# Altium footprint library PcbLib1.PcbLib: 16 footprints
Each footprint in its own frame and in the unit in brackets; x right, y up, seen from the top. Pads: shape width x height; smd on the part's side, far side on the other; paste and mask are expansions set on the pad; w line width, h text height; cw(c..) or ccw(c..) is an arc to the next point about the centre after c.
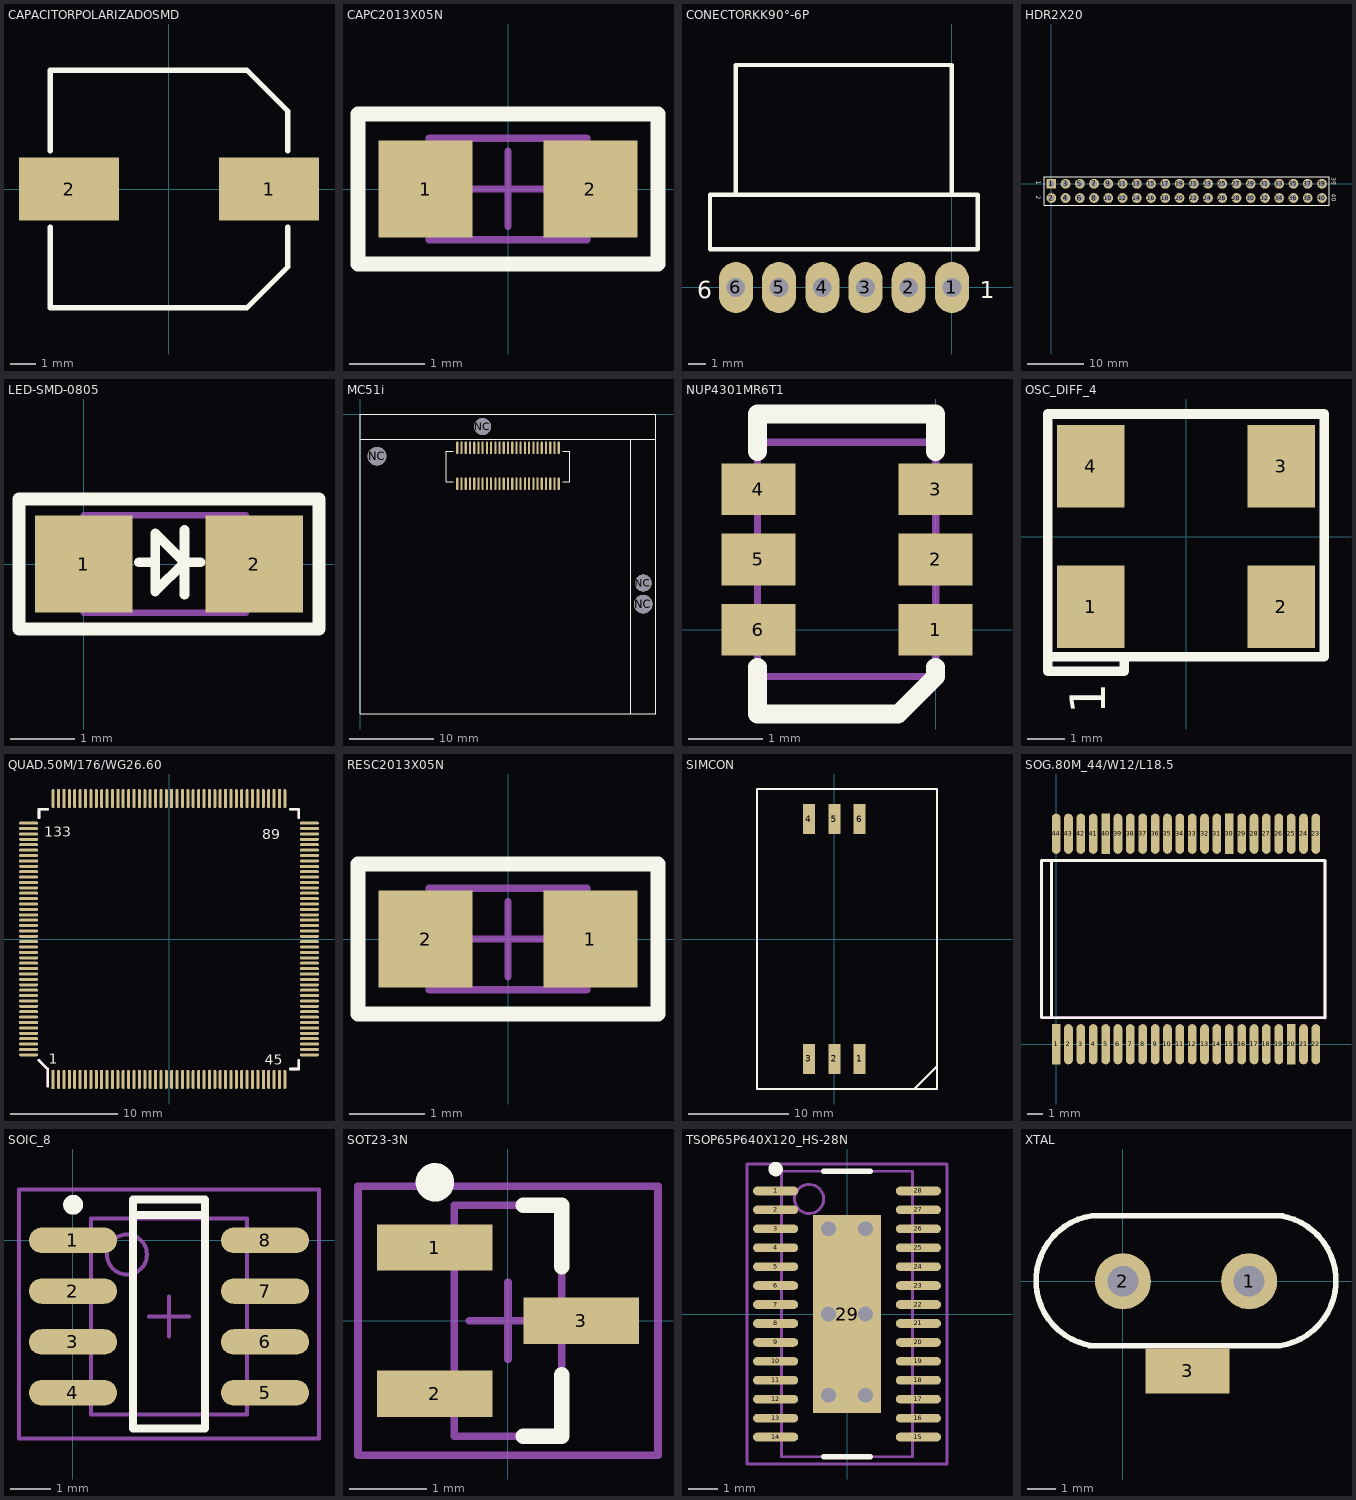
[diagram p0: the footprints below, top view; thin cyan lines are the x and y axes]

## CAPACITORPOLARIZADOSMD [mm]
pads (2):
  rect 4x2.5 smd: 1(4,0) 2(-4,0)
Top Overlay:
  lines w0.203: -4.75,-1.524 -4.75,-4.75 3.124,-4.75 4.75,-3.124 4.75,-1.524 ; -4.75,1.524 -4.75,4.75 3.124,4.75 4.75,3.124 4.75,1.524
3D body: height 10.4, standoff 0, extent -4.762,-4.762 4.762,4.762
3D body: height 0, standoff 0, extent -4.75,-4.75 4.75,4.75

## CAPC2013X05N [mm] "Chip Capacitor, 2-Leads, Body 2,0x1,3mm, IPC Medium Density"
height 0.5
pads (2):
  rect 1.25x1.3 smd: 1(-1.1,0) 2(1.1,0)
Top Overlay:
  lines w0.2: -2,-1 2,-1 2,1 -2,1 -2,-1
Mechanical 13:
  lines w0.1: -1.05,-0.675 1.05,-0.675 1.05,0.675 -1.05,0.675 -1.05,-0.675
Mechanical 15:
  lines w0.1: -0.5,0 0.5,0 ; 0,-0.5 0,0.5 ; -2,-1 2,-1 2,1 -2,1 -2,-1
3D body: height 0.5, standoff 0, extent -1.05,-0.675 1.05,0.675

## CONECTORKK90°-6P [mm]
pads (6):
  oval 2x3 hole 1.1: 1(0,0) 2(-2.54,0) 3(-5.08,0) 4(-7.62,0) 5(-10.16,0) 6(-12.7,0)
Top Overlay:
  lines w0.254: -12.7,5.45 -12.7,13.081 0,13.081 0,5.461 ; -14.224,2.25 1.524,2.25 ; -14.224,2.25 -14.224,5.45 1.524,5.45 1.524,2.25 ; -14.224,2.25 1.524,2.25
  text "6" at -14.986,-0.635 h1
  text "1" at 1.651,-0.635 h1
3D body: height 2.5, standoff 0, extent -12.7,9.525 0,10.16
3D body: height 2.5, standoff 0, extent -12.7,8.255 0,8.89
3D body: height 5.7, standoff 0, extent -14.224,2.25 1.524,5.45
3D body: height 2, standoff 0, extent -12.7,2.25 0,13.081

## HDR2X20 [mm] "Connector; Header; 20x2 Position"
pads (40):
  rect 1.74x1.74 hole 1.1: 1(0,0)
  round 1.74 hole 1.1: 2(0,-2.54) 3(2.54,0) 4(2.54,-2.54) 5(5.08,0) 6(5.08,-2.54) 7(7.62,0) 8(7.62,-2.54) 9(10.16,0) 10(10.16,-2.54) 11(12.7,0) 12(12.7,-2.54) 13(15.24,0) 14(15.24,-2.54) 15(17.78,0) 16(17.78,-2.54) 17(20.32,0) 18(20.32,-2.54) 19(22.86,0) 20(22.86,-2.54) 21(25.4,0) 22(25.4,-2.54) 23(27.94,0) 24(27.94,-2.54) 25(30.48,0) 26(30.48,-2.54) 27(33.02,0) 28(33.02,-2.54) 29(35.56,0) 30(35.56,-2.54) 31(38.1,0) 32(38.1,-2.54) 33(40.64,0) 34(40.64,-2.54) 35(43.18,0) 36(43.18,-2.54) 37(45.72,0) 38(45.72,-2.54) 39(48.26,0) 40(48.26,-2.54)
Top Overlay:
  lines w0.2: -1.27,-3.81 -1.27,1.27 49.53,1.27 49.53,-3.81 -1.27,-3.81
  text "39" at 49.97,1.143 h0.8
  text "40" at 49.97,-1.778 h0.8
  text "2" at -2.735,-2.159 h0.8
  text "1" at -2.735,0.508 h0.8
3D body: height 0, standoff 0, extent -1.269,-3.809 49.529,1.269

## LED-SMD-0805 [mil]
pads (2):
  rect 60x60 smd: 1(0,0) 2(105,0)
Top Overlay:
  lines w6: 34,1 44,1 ; 62,-19 62,21 ; 72,1 62,1 ; 62,1 44,-17 44,19 62,1
  lines w8: -40,-40 -40,40 145,40 145,-40 -40,-40
Mechanical 13:
  lines w3.94: 0,-30 0,30 100,30 100,-30 0,-30
3D body: height 19.68, standoff 0, extent 0,-30 105,30

## MC51i [mm]
pads (54):
  oval 0.25x1.5 smd paste+0 mask+0.01: 1(23.5,-8.25) 2(23,-8.25) 3(22.5,-8.25) 4(22,-8.25) 5(21.5,-8.25) 6(21,-8.25) 7(20.5,-8.25) 8(20,-8.25) 9(19.5,-8.25) 10(19,-8.25) 11(18.5,-8.25) 12(18,-8.25) 13(17.5,-8.25) 14(17,-8.25) 15(16.5,-8.25) 16(16,-8.25) 17(15.5,-8.25) 18(15,-8.25) 19(14.5,-8.25) 20(14,-8.25) 21(13.5,-8.25) 22(13,-8.25) 23(12.5,-8.25) 24(12,-8.25) 25(11.5,-8.25) 26(11.5,-4) 27(12,-4) 28(12.5,-4) 29(13,-4) 30(13.5,-4) 31(14,-4) 32(14.5,-4) 33(15,-4) 34(15.5,-4) 35(16,-4) 36(16.5,-4) 37(17,-4) 38(17.5,-4) 39(18,-4) 40(18.5,-4) 41(19,-4) 42(19.5,-4) 43(20,-4) 44(20.5,-4) 45(21,-4) 46(21.5,-4) 47(22,-4) 48(22.5,-4) 49(23,-4) 50(23.5,-4)
  round 2.2 hole 2.2: NC(2,-5) NC(33.5,-22.5)
  round 2 hole 2: NC(14.5,-1.5) NC(33.5,-20)
Top Overlay:
  lines w0.1: 35,-3 35,0
  lines w0.127: 11,-4.4 10.2,-4.4 10.2,-8 11,-8 ; 24,-4.4 24.8,-4.4 24.8,-8 24,-8 ; 32,-35.5 32,-3 ; 35,-1.5 35,-3 ; 35,0 0,0 0,-3 ; 0,-3 0,-35.5 35,-35.5 35,-3 ; 0,-3 35,-3 ; 11,-8 11,-8 ; 24,-8 24,-8

## NUP4301MR6T1 [mm]
height 0.6
pads (6):
  rect 1x0.7 smd: 1(0,0) 2(0,0.95) 3(0,1.9) 4(-2.4,1.9) 5(-2.4,0.95) 6(-2.4,0)
Top Overlay:
  lines w0.254: -2.413,-0.508 -2.413,-1.143 -0.508,-1.143 0,-0.635 0,-0.508 ; -2.413,2.413 -2.413,2.921 0,2.921 0,2.413
Mechanical 13:
  lines w0.1: -2.413,-0.635 -2.413,2.54 0,2.54 0,-0.635 -2.413,-0.635
3D body: height 1.6, standoff 0, extent -2.787,-0.247 0.388,2.152

## OSC_DIFF_4 [mm]
pads (4):
  rect 1.8x2.2 smd: 1(-2.54,-1.875) 2(2.54,-1.875) 3(2.54,1.875) 4(-2.54,1.875)
Top Overlay:
  lines w0.254: -3.683,-3.078 -3.683,-3.586 -1.651,-3.586 -1.651,-3.205 ; -3.683,-3.205 3.683,-3.205 3.683,3.272 -3.683,3.272 -3.683,-3.205
  text "1" at -2.159,-4.729 h0.95

## QUAD.50M/176/WG26.60 [mil]
pads (176):
  rect 11x70 smd: 1(-423.55,-513.55) 10(-246.25,-513.55) 20(-49.25,-513.55) 30(147.75,-513.55) 40(344.75,-513.55) 90(403.85,513.55) 100(206.85,513.55) 110(9.85,513.55) 120(-187.15,513.55) 130(-384.15,513.55)
  oval 11x70 smd: 2(-403.85,-513.55) 3(-384.15,-513.55) 4(-364.45,-513.55) 5(-344.75,-513.55) 6(-325.05,-513.55) 7(-305.35,-513.55) 8(-285.65,-513.55) 9(-265.95,-513.55) 11(-226.55,-513.55) 12(-206.85,-513.55) 13(-187.15,-513.55) 14(-167.45,-513.55) 15(-147.75,-513.55) 16(-128.05,-513.55) 17(-108.35,-513.55) 18(-88.65,-513.55) 19(-68.95,-513.55) 21(-29.55,-513.55) 22(-9.85,-513.55) 23(9.85,-513.55) 24(29.55,-513.55) 25(49.25,-513.55) 26(68.95,-513.55) 27(88.65,-513.55) 28(108.35,-513.55) 29(128.05,-513.55) 31(167.45,-513.55) 32(187.15,-513.55) 33(206.85,-513.55) 34(226.55,-513.55) 35(246.25,-513.55) 36(265.95,-513.55) 37(285.65,-513.55) 38(305.35,-513.55) 39(325.05,-513.55) 41(364.45,-513.55) 42(384.15,-513.55) 43(403.85,-513.55) 44(423.55,-513.55) 89(423.55,513.55) 91(384.15,513.55) 92(364.45,513.55) 93(344.75,513.55) 94(325.05,513.55) 95(305.35,513.55) 96(285.65,513.55) 97(265.95,513.55) 98(246.25,513.55) 99(226.55,513.55) 101(187.15,513.55) 102(167.45,513.55) 103(147.75,513.55) 104(128.05,513.55) 105(108.35,513.55) 106(88.65,513.55) 107(68.95,513.55) 108(49.25,513.55) 109(29.55,513.55) 111(-9.85,513.55) 112(-29.55,513.55) 113(-49.25,513.55) 114(-68.95,513.55) 115(-88.65,513.55) 116(-108.35,513.55) 117(-128.05,513.55) 118(-147.75,513.55) 119(-167.45,513.55) 121(-206.85,513.55) 122(-226.55,513.55) 123(-246.25,513.55) 124(-265.95,513.55) 125(-285.65,513.55) 126(-305.35,513.55) 127(-325.05,513.55) 128(-344.75,513.55) 129(-364.45,513.55) 131(-403.85,513.55) 132(-423.55,513.55)
  oval 70x11 smd: 45(513.55,-423.55) 46(513.55,-403.85) 47(513.55,-384.15) 48(513.55,-364.45) 49(513.55,-344.75) 51(513.55,-305.35) 52(513.55,-285.65) 53(513.55,-265.95) 54(513.55,-246.25) 55(513.55,-226.55) 56(513.55,-206.85) 57(513.55,-187.15) 58(513.55,-167.45) 59(513.55,-147.75) 61(513.55,-108.35) 62(513.55,-88.65) 63(513.55,-68.95) 64(513.55,-49.25) 65(513.55,-29.55) 66(513.55,-9.85) 67(513.55,9.85) 68(513.55,29.55) 69(513.55,49.25) 71(513.55,88.65) 72(513.55,108.35) 73(513.55,128.05) 74(513.55,147.75) 75(513.55,167.45) 76(513.55,187.15) 77(513.55,206.85) 78(513.55,226.55) 79(513.55,246.25) 81(513.55,285.65) 82(513.55,305.35) 83(513.55,325.05) 84(513.55,344.75) 85(513.55,364.45) 86(513.55,384.15) 87(513.55,403.85) 88(513.55,423.55) 133(-513.55,423.55) 134(-513.55,403.85) 135(-513.55,384.15) 136(-513.55,364.45) 137(-513.55,344.75) 138(-513.55,325.05) 139(-513.55,305.35) 141(-513.55,265.95) 142(-513.55,246.25) 143(-513.55,226.55) 144(-513.55,206.85) 145(-513.55,187.15) 146(-513.55,167.45) 147(-513.55,147.75) 148(-513.55,128.05) 149(-513.55,108.35) 151(-513.55,68.95) 152(-513.55,49.25) 153(-513.55,29.55) 154(-513.55,9.85) 155(-513.55,-9.85) 156(-513.55,-29.55) 157(-513.55,-49.25) 158(-513.55,-68.95) 159(-513.55,-88.65) 161(-513.55,-128.05) 162(-513.55,-147.75) 163(-513.55,-167.45) 164(-513.55,-187.15) 165(-513.55,-206.85) 166(-513.55,-226.55) 167(-513.55,-246.25) 168(-513.55,-265.95) 169(-513.55,-285.65) 171(-513.55,-325.05) 172(-513.55,-344.75) 173(-513.55,-364.45) 174(-513.55,-384.15) 175(-513.55,-403.85) 176(-513.55,-423.55)
  rect 70x11 smd: 50(513.55,-325.05) 60(513.55,-128.05) 70(513.55,68.95) 80(513.55,265.95) 140(-513.55,285.65) 150(-513.55,88.65) 160(-513.55,-108.35) 170(-513.55,-305.35)
Top Overlay:
  lines w10: -475.05,-443.75 -443.75,-475.05 -443.75,-537.55 ; -475.05,443.75 -475.05,474.95 -443.75,474.95 ; 443.75,-475.05 474.95,-475.05 474.95,-443.75 ; 443.75,474.95 474.95,474.95 474.95,443.75
  text "133" at -455.68,374.12 h37.5
  text "89" at 340.22,365.58 h37.5
  text "45" at 350.58,-460.35 h37.5
  text "1" at -438.92,-455.68 h37.5
Mechanical 1:
  lines w10: -475.05,-443.75 -443.75,-475.05 -443.75,-537.55 ; -475.05,443.75 -475.05,474.95 -443.75,474.95 ; 443.75,-475.05 474.95,-475.05 474.95,-443.75 ; 443.75,474.95 474.95,474.95 474.95,443.75
  text "133" at -455.68,404.12 h37.5
  text "89" at 415.22,455.58 h37.5
  text "45" at 455.58,-415.35 h37.5
  text "1" at -438.92,-455.68 h37.5

## RESC2013X05N [mm] "Chip Resistor, 2-Leads, Body 2,0x1,3mm, IPC Medium Density"
height 0.5
pads (2):
  rect 1.25x1.3 smd: 1(1.1,0) 2(-1.1,0)
Top Overlay:
  lines w0.2: -2,-1 2,-1 2,1 -2,1 -2,-1
Mechanical 13:
  lines w0.1: -1.05,-0.675 -1.05,0.675 1.05,0.675 1.05,-0.675 -1.05,-0.675
Mechanical 15:
  lines w0.1: -0.5,0 0.5,0 ; 0,-0.5 0,0.5 ; -2,-1 -2,1 2,1 2,-1 -2,-1
3D body: height 0.5, standoff 0, extent -1.05,-0.675 1.05,0.675

## SIMCON [mm]
pads (6):
  rect 1.2x3 smd: 1(2.54,-12) 2(0,-12) 3(-2.54,-12) 4(-2.54,12) 5(0,12) 6(2.54,12)
Top Overlay:
  lines w0.2: 8,-15 10.27,-12.73 10.27,-12 ; -7.73,-15 10.27,-15 10.27,15 -7.73,15 -7.73,-15

## SOG.80M_44/W12/L18.5 [mil]
pads (44):
  rect 22x102.33 smd: 1(0,0) 20(598.5,0) 30(441,536) 40(126,536)
  oval 22x102.33 smd: 2(31.5,0) 3(63,0) 4(94.5,0) 5(126,0) 6(157.5,0) 7(189,0) 8(220.5,0) 9(252,0) 10(283.5,0) 11(315,0) 12(346.5,0) 13(378,0) 14(409.5,0) 15(441,0) 16(472.5,0) 17(504,0) 18(535.5,0) 19(567,0) 21(630,0) 22(661.5,0) 23(661.5,536) 24(630,536) 25(598.5,536) 26(567,536) 27(535.5,536) 28(504,536) 29(472.5,536) 31(409.5,536) 32(378,536) 33(346.5,536) 34(315,536) 35(283.5,536) 36(252,536) 37(220.5,536) 38(189,536) 39(157.5,536) 41(94.5,536) 42(63,536) 43(31.5,536) 44(0,536)
Top Overlay:
  lines w8: -11.8,68 -11.8,468 ; -36.8,68 684.4,66.87 684.4,468 -36.8,468 -36.8,68
Mechanical 1:
  lines w8: -11.8,68 -11.8,468 ; -36.8,68 -36.8,468 685,468 685,68 -36.8,68

## SOIC_8 [mm]
height 1.1
pads (8):
  oval 2.2x0.635 smd: 1(0,0) 2(0,-1.27) 3(0,-2.54) 4(0,-3.81) 5(4.8,-3.81) 6(4.8,-2.54) 7(4.8,-1.27) 8(4.8,0)
Top Overlay:
  circle w0.25: c0.003,0.889 r0.124
  lines w0.2: 1.5,1.014 1.5,0.635 ; 1.502,1.016 3.302,1.016 ; 3.3,1.014 3.3,0.635 ; 1.5,0.635 3.3,0.635 ; 1.5,0.635 1.5,-4.699 3.3,-4.699 3.3,0.635
Mechanical 13:
  circle w0.1: c1.35,-0.355 r0.5
  lines w0.1: 0.45,-4.355 0.45,0.545 4.35,0.545 4.35,-4.355 0.45,-4.355
Mechanical 15:
  lines w0.1: 1.9,-1.905 2.9,-1.905 ; 2.4,-2.405 2.4,-1.405 ; -1.35,-4.953 -1.35,1.27 6.15,1.27 6.15,-4.953 -1.35,-4.953
3D body: height 1.75, standoff 0, extent 0.45,-4.355 4.35,0.545

## SOT23-3N [mm] "SOT23, 3-Leads, Body 2.9x1.3mm, Pitch 0.95mm, Lead Span 2.5mm, IPC Medium Density"
height 1.1
pads (3):
  rect 1.5x0.6 smd: 1(-0.95,0.95) 2(-0.95,-0.95) 3(0.95,0)
Top Overlay:
  circle w0.25: c-0.95,1.8 r0.125
  lines w0.2: 0.2,-1.5 0.7,-1.5 0.7,-0.7 ; 0.2,1.5 0.7,1.5 0.7,0.7
Mechanical 13:
  lines w0.1: -0.7,-1.5 0.7,-1.5 0.7,1.5 -0.7,1.5 -0.7,-1.5
Mechanical 15:
  lines w0.1: -0.5,0 0.5,0 ; 0,-0.5 0,0.5 ; -1.95,-1.75 1.95,-1.75 1.95,1.75 -1.95,1.75 -1.95,-1.75
3D body: height 1.1, standoff 0, extent -0.7,-1.5 0.7,1.5

## TSOP65P640X120_HS-28N [mm] "TSOP, 28-Leads, Body 9.8x4.5mm (max), Pitch 0.65mm, IPC Medium Density"
height 1.2
pads (29):
  oval 1.55x0.3 smd: 1(-2.45,4.225) 2(-2.45,3.575) 3(-2.45,2.925) 4(-2.45,2.275) 5(-2.45,1.625) 6(-2.45,0.975) 7(-2.45,0.325) 8(-2.45,-0.325) 9(-2.45,-0.975) 10(-2.45,-1.625) 11(-2.45,-2.275) 12(-2.45,-2.925) 13(-2.45,-3.575) 14(-2.45,-4.225) 15(2.45,-4.225) 16(2.45,-3.575) 17(2.45,-2.925) 18(2.45,-2.275) 19(2.45,-1.625) 20(2.45,-0.975) 21(2.45,-0.325) 22(2.45,0.325) 23(2.45,0.975) 24(2.45,1.625) 25(2.45,2.275) 26(2.45,2.925) 27(2.45,3.575) 28(2.45,4.225)
  rect 2.35x6.8 smd: 29(0,0)
via 0.635,-2.794 diameter 0.8 hole 0.5
via -0.635,-2.794 diameter 0.8 hole 0.5
via 0.635,0 diameter 0.8 hole 0.5
via -0.635,0 diameter 0.8 hole 0.5
via 0.635,2.921 diameter 0.8 hole 0.5
via -0.635,2.921 diameter 0.8 hole 0.5
Top Overlay:
  circle w0.25: c-2.45,4.975 r0.125
  lines w0.2: -0.8,-4.9 0.8,-4.9 ; -0.8,4.9 0.8,4.9
Mechanical 13:
  circle w0.1: c-1.3,3.95 r0.5
  lines w0.1: -2.25,-4.9 2.25,-4.9 2.25,4.9 -2.25,4.9 -2.25,-4.9
Mechanical 15:
  lines w0.1: -0.5,0 0.5,0 ; 0,-0.5 0,0.5 ; -3.429,-5.15 3.429,-5.15 3.429,5.15 -3.429,5.15 -3.429,-5.15
3D body: height 1.2, standoff 0.15, extent -2.25,-4.9 2.25,4.9

## XTAL [mm]
height 0.6
pads (3):
  round 2 hole 1.1: 1(4.5,0) 2(0,0)
  rect 3x1.6 smd: 3(2.303,-3.197)
Top Overlay:
  lines w0.2: 3.093,2.338 -1.094,2.338 ; 4.791,2.338 -1.094,2.338 ; 5.69,2.338 -1.094,2.338 ; -1.094,-2.298 cw(c-0.756,0.02) -1.094,2.338 ; -1.094,-2.298 cw(c-0.756,0.02) -1.094,2.338 ; -1.094,-2.298 cw(c-0.756,0.02) -1.094,2.338 ; 5.591,-2.297 ccw(c5.252,0.021) 5.591,2.338 ; 5.591,-2.297 ccw(c5.252,0.021) 5.591,2.338 ; 5.591,-2.297 ccw(c5.252,0.021) 5.591,2.338 ; 5.591,-2.297 ccw(c5.252,0.021) 5.591,2.338 ; 5.591,-2.297 ccw(c5.252,0.021) 5.591,2.338 ; 5.591,-2.297 ccw(c5.252,0.021) 5.591,2.338 ; 5.591,-2.297 -1.194,-2.298 5.591,-2.297 ; 5.591,-2.297 1.404,-2.298 5.591,-2.297 ; 5.591,-2.297 -0.295,-2.298 5.591,-2.297
3D body: height 5, standoff 0, extent -3.11,-2.3 7.606,2.341